# EAGLE library part XMC4200_PROZESSORBOARD_V1 (library tera-boards)
Prozessboard XMC4[12]00 by TERA TU Graz
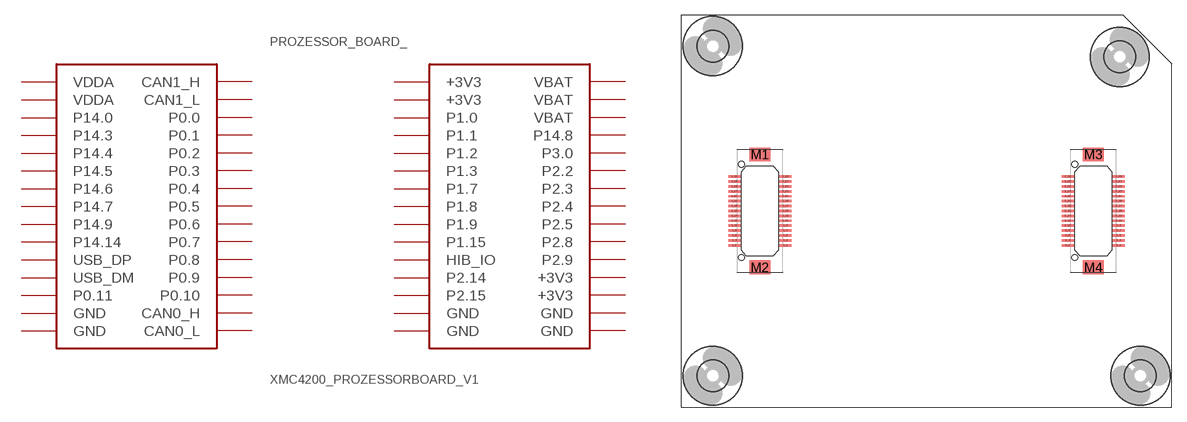
[diagram p6: symbol with the pads of XMC4200_PROZESSORBOARD_V1; footprint XMC4200_PROZESSORBOARD_V1]

Designator prefix PROZESSOR_BOARD_

## XMC4200_PROZESSORBOARD_V1  [XMC4200_PROZESSORBOARD_V1]
1_1  VDDA  pwr
1_2  CAN1_H
1_3  VDDA  pwr
1_4  CAN1_L
1_5  P14.0
1_6  P0.0
1_7  P14.3
1_8  P0.1
1_9  P14.4
1_10  P0.2
1_11  P14.5
1_12  P0.3
1_13  P14.6
1_14  P0.4
1_15  P14.7
1_16  P0.5
1_17  P14.9
1_18  P0.6
1_19  P14.14
1_20  P0.7
1_21  USB_DP
1_22  P0.8
1_23  USB_DM
1_24  P0.9
1_25  P0.11
1_26  P0.10
1_27  GND  pwr
1_28  CAN0_H
1_29  GND  pwr
1_30  CAN0_L
2_1  +3V3  pwr
2_2  VBAT  pwr
2_3  +3V3  pwr
2_4  VBAT  pwr
2_5  P1.0
2_6  VBAT  pwr
2_7  P1.1
2_8  P14.8
2_9  P1.2
2_10  P3.0
2_11  P1.3
2_12  P2.2
2_13  P1.7
2_14  P2.3
2_15  P1.8
2_16  P2.4
2_17  P1.9
2_18  P2.5
2_19  P1.15
2_20  P2.8
2_21  HIB_IO
2_22  P2.9
2_23  P2.14
2_24  +3V3  pwr
2_25  P2.15
2_26  +3V3  pwr
2_27  GND  pwr
2_28  GND  pwr
2_29  GND  pwr
2_30  GND  pwr

## Footprint XMC4200_PROZESSORBOARD_V1 (pad centres in mm)
smd 1.2 x 0.25: 1_1 10.6,16.5; 1_2 5.4,16.5; 1_3 10.6,17; 1_4 5.4,17; 1_5 10.6,17.5; 1_6 5.4,17.5; 1_7 10.6,18; 1_8 5.4,18; 1_9 10.6,18.5; 1_10 5.4,18.5; 1_11 10.6,19; 1_12 5.4,19; 1_13 10.6,19.5; 1_14 5.4,19.5; 1_15 10.6,20; 1_16 5.4,20; 1_17 10.6,20.5; 1_18 5.4,20.5; 1_19 10.6,21; 1_20 5.4,21; 1_21 10.6,21.5; 1_22 5.4,21.5; 1_23 10.6,22; 1_24 5.4,22; 1_25 10.6,22.5; 1_26 5.4,22.5; 1_27 10.6,23; 1_28 5.4,23; 1_29 10.6,23.5; 1_30 5.4,23.5; 2_1 44.6,16.5; 2_2 39.4,16.5; 2_3 44.6,17; 2_4 39.4,17; 2_5 44.6,17.5; 2_6 39.4,17.5; 2_7 44.6,18; 2_8 39.4,18; 2_9 44.6,18.5; 2_10 39.4,18.5; 2_11 44.6,19; 2_12 39.4,19; 2_13 44.6,19.5; 2_14 39.4,19.5; 2_15 44.6,20; 2_16 39.4,20; 2_17 44.6,20.5; 2_18 39.4,20.5; 2_19 44.6,21; 2_20 39.4,21; 2_21 44.6,21.5; 2_22 39.4,21.5; 2_23 44.6,22; 2_24 39.4,22; 2_25 44.6,22.5; 2_26 39.4,22.5; 2_27 44.6,23; 2_28 39.4,23; 2_29 44.6,23.5; 2_30 39.4,23.5
smd 2.1 x 1.4: M1 8,25.75; M2 8,14.25; M3 42,25.75; M4 42,14.25
hole 0.6 at 6.1,24.75
hole 0.6 at 6.1,15.25
hole 0.6 at 40.1,24.75
hole 0.6 at 40.1,15.25
hole 3.2 at 3.2,36.8
hole 3.2 at 44.7,35.7
hole 3.2 at 46.8,3.2
hole 3.2 at 3.2,3.2